# Altium footprint library PcbLib.PcbLib: 50 footprints (part 3 of 4)
Each footprint in its own frame and in the unit in brackets; x right, y up, seen from the top. Pads: shape width x height; smd on the part's side, far side on the other; paste and mask are expansions set on the pad; w line width, h text height; cw(c..) or ccw(c..) is an arc to the next point about the centre after c.
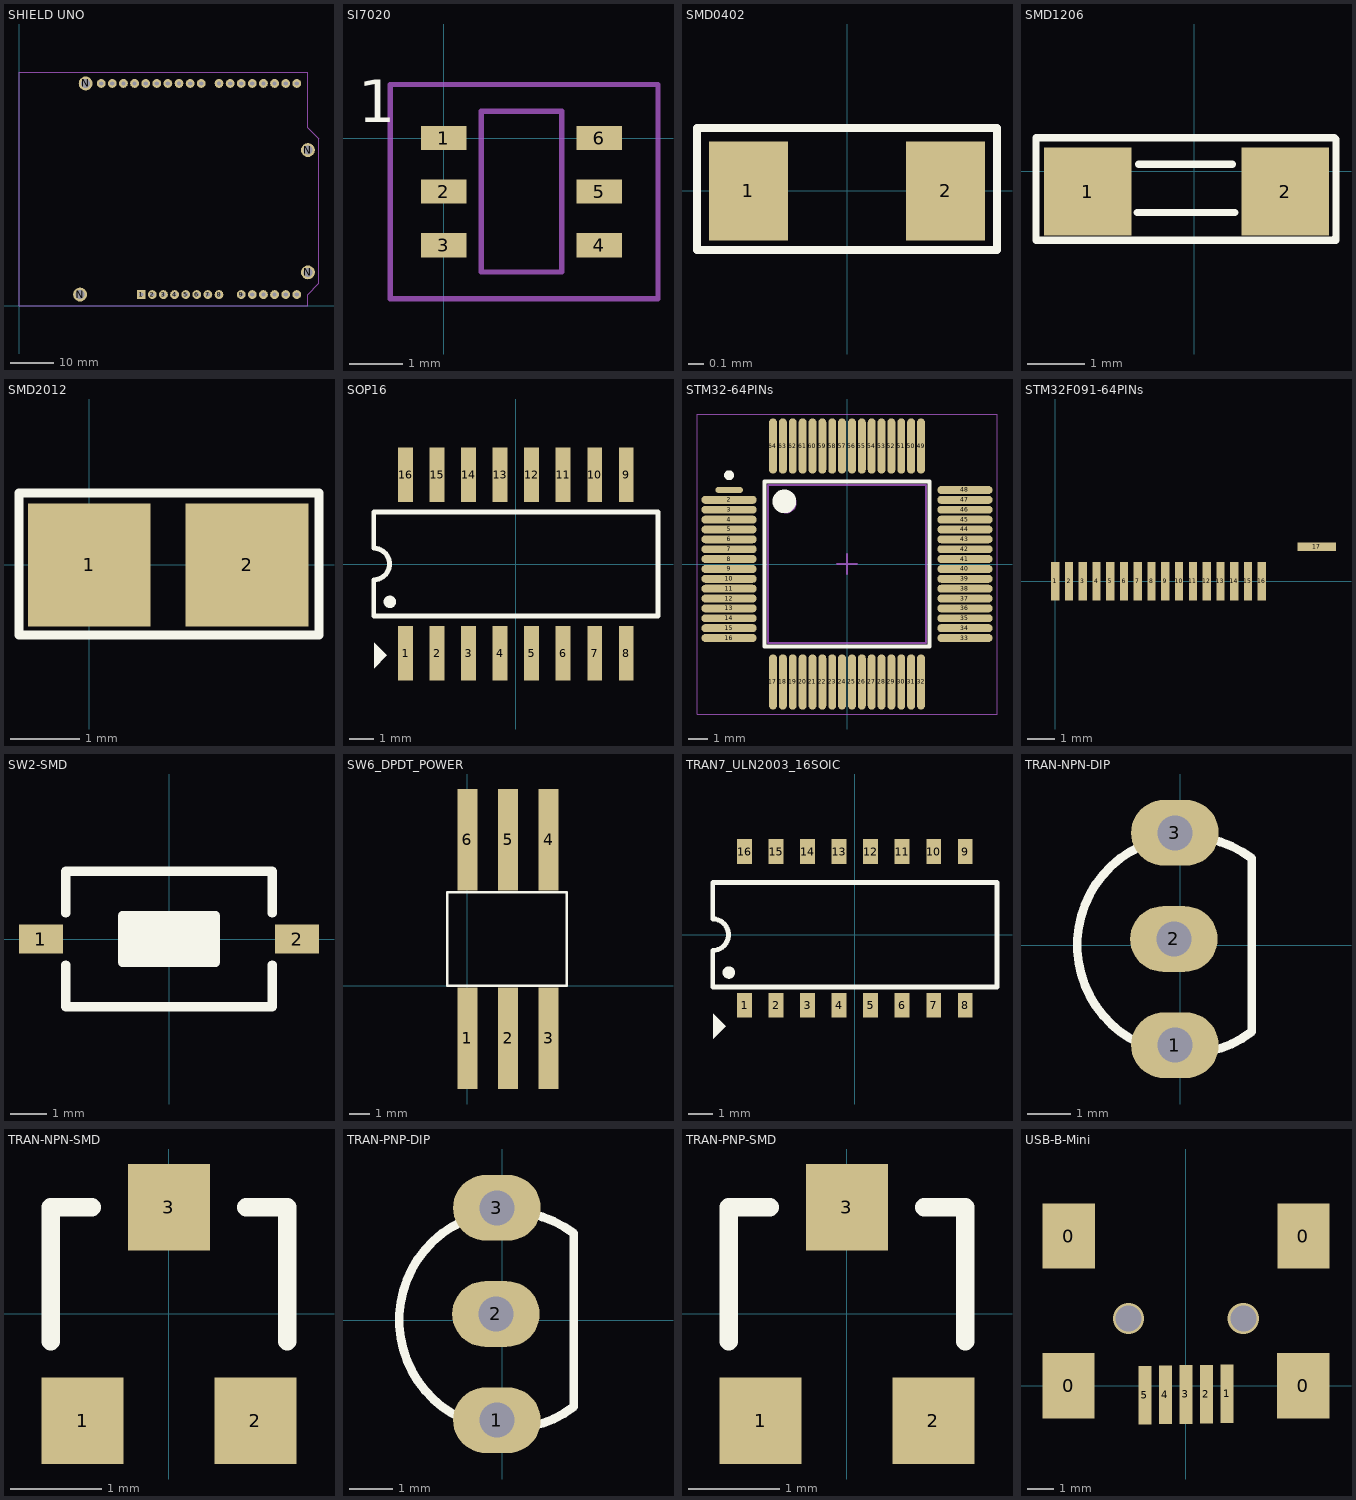
[diagram p2: the footprints below, top view; thin cyan lines are the x and y axes]

## SHIELD UNO [mm]
pads (36):
  rect 2x2 hole 1: 1(27.94,2.54)
  round 2 hole 1: 2(30.48,2.54) 3(33.02,2.54) 4(35.56,2.54) 5(38.1,2.54) 6(40.64,2.54) 7(43.18,2.54) 8(45.72,2.54) 9(50.8,2.54) 10(53.34,2.54) 11(55.88,2.54) 12(58.42,2.54) 13(60.96,2.54) 14(63.5,2.54) 15(63.5,50.8) 16(60.96,50.8) 17(58.42,50.8) 18(55.88,50.8) 19(53.34,50.8) 20(50.8,50.8) 21(48.26,50.8) 22(45.72,50.8) 23(41.656,50.8) 24(39.116,50.8) 25(36.576,50.8) 26(34.036,50.8) 27(31.496,50.8) 28(28.956,50.8) 29(26.416,50.8) 30(23.876,50.8) 31(21.336,50.8) 32(18.796,50.8)
  round 3.175 hole 2.032: N(13.97,2.54) N(15.24,50.8) N(66.04,7.62) N(66.04,35.56)
Mechanical 1:
  lines w0.254: 0,0 0,2.54 0,53.34 66.04,53.34 66.04,50.8 66.04,40.64 68.58,38.1 68.58,5.08 66.04,2.54 66.04,0 0,0

## SI7020 [mm] "DFN, 4-Leads, Body 3.00x3.00mm, Pitch 0.65mm, IPC Medium Density"
height 0.8
pads (6):
  rect 0.85x0.45 smd: 1(0,0) 2(0,-1) 3(0,-2) 4(2.9,-2) 5(2.9,-1) 6(2.9,0)
Top Overlay:
  text "1" at -1.6,0.3 h0.8
Mechanical 1:
  lines w0.1: 2.2,-2.3 2.2,-2.5 0.7,-2.5 0.7,0.5 2.2,0.5 ; -1,-3 -1,1 4,1 4,-3 -1,-3
Mechanical 13:
  lines w0.1: 2.2,-2.3 2.2,0.5

## SMD0402 [mil]
pads (2):
  rect 20x25 smd: 1(-25,0) 2(25,0)
Top Overlay:
  lines w2: -38,-15 -38,16 38,16 38,-15 -38,-15
3D body "User Library-Chip Resistor_0402 (1005).STEP": height 14.37, standoff 0, extent -19.68,-9.76 19.68,10

## SMD1206 [mil]
pads (2):
  rect 60x60 smd: 1(-72.68,-13.74) 2(62.32,-13.74)
Top Overlay:
  lines w5: -39,-28 28,-28 ; -38,5 26,5 ; 96,-46 97,-47 ; 96,23 -108,23 -108,-47 97,-47 ; 97,22 97,-47
3D body "SW3DPS-RESISTOR 1206-DEFAULT.STEP": height 20.87, standoff -1.18, extent -68.99,-45.67 57,19.68

## SMD2012 [mil]
pads (2):
  rect 70x70 smd: 1(0,0) 2(90,0)
Top Overlay:
  lines w5: -40,-40 -40,41 131,41 131,-40 -40,-40
3D body "User Library-CAPC2012X___.STEP": height 25, standoff -25, extent 7.64,-11.44 86.37,11

## SOP16 [mm] "Small Outline; 16 Leads; Body Width 5.6 mm; Pitch 1.27 mm"
height 2
pads (16):
  rect 0.6x2.2 smd: 1(-4.445,-3.6) 2(-3.175,-3.6) 3(-1.905,-3.6) 4(-0.635,-3.6) 5(0.635,-3.6) 6(1.905,-3.6) 7(3.175,-3.6) 8(4.445,-3.6) 9(4.445,3.6) 10(3.175,3.6) 11(1.905,3.6) 12(0.635,3.6) 13(-0.635,3.6) 14(-1.905,3.6) 15(-3.175,3.6) 16(-4.445,3.6)
Top Overlay:
  circle w0.25: c-5.078,-1.524 r0.125
  region: -5.715,-4.191 -5.207,-3.683 -5.715,-3.175
  lines w0.2: -5.725,-2.1 -5.725,-0.635 ccw(c-5.725,0) -5.725,0.635 -5.725,2.1 5.725,2.1 5.725,-2.1 -5.725,-2.1

## STM32-64PINs [mm] "SQFP, 64-Leads, Body 8.00x8.00mm, Pitch 0.50mm, IPC Medium Density"
height 2.45
pads (64):
  oval 1.4x0.3 smd: 1(-5.975,3.75)
  oval 2.8x0.4 smd: 2(-5.975,3.25) 3(-5.975,2.75) 4(-5.975,2.25) 5(-5.975,1.75) 6(-5.975,1.25) 7(-5.975,0.75) 8(-5.975,0.25) 9(-5.975,-0.25) 10(-5.975,-0.75) 11(-5.975,-1.25) 12(-5.975,-1.75) 13(-5.975,-2.25) 14(-5.975,-2.75) 15(-5.975,-3.25) 16(-5.975,-3.75) 33(5.975,-3.75) 34(5.975,-3.25) 35(5.975,-2.75) 36(5.975,-2.25) 37(5.975,-1.75) 38(5.975,-1.25) 39(5.975,-0.75) 40(5.975,-0.25) 41(5.975,0.25) 42(5.975,0.75) 43(5.975,1.25) 44(5.975,1.75) 45(5.975,2.25) 46(5.975,2.75) 47(5.975,3.25) 48(5.975,3.75)
  oval 0.4x2.8 smd: 17(-3.75,-5.975) 18(-3.25,-5.975) 19(-2.75,-5.975) 20(-2.25,-5.975) 21(-1.75,-5.975) 22(-1.25,-5.975) 23(-0.75,-5.975) 24(-0.25,-5.975) 25(0.25,-5.975) 26(0.75,-5.975) 27(1.25,-5.975) 28(1.75,-5.975) 29(2.25,-5.975) 30(2.75,-5.975) 31(3.25,-5.975) 32(3.75,-5.975) 49(3.75,5.975) 50(3.25,5.975) 51(2.75,5.975) 52(2.25,5.975) 53(1.75,5.975) 54(1.25,5.975) 55(0.75,5.975) 56(0.25,5.975) 57(-0.25,5.975) 58(-0.75,5.975) 59(-1.25,5.975) 60(-1.75,5.975) 61(-2.25,5.975) 62(-2.75,5.975) 63(-3.25,5.975) 64(-3.75,5.975)
Top Overlay:
  circle w0.6: c-3.175,3.175 r0.3
  circle w0.25: c-5.975,4.5 r0.125
  lines w0.2: -4.175,-4.175 4.175,-4.175 4.175,4.175 -4.175,4.175 -4.175,-4.175
Mechanical 13:
  circle w0.1: c-3.1,3.1 r0.5
  lines w0.1: -4,-4 4,-4 4,4 -4,4 -4,-4
Mechanical 15:
  lines w0.05: -7.6,-7.6 7.6,-7.6 7.6,7.6 -7.6,7.6 -7.6,-7.6
  lines w0.1: -0.5,0 0.5,0 ; 0,-0.5 0,0.5
3D body: height 2.45, standoff 0.25, extent -4,-4 4,4

## STM32F091-64PINs [mm]
pads (17):
  rect 0.3x1.4 smd: 1(0,0) 2(0.5,0) 3(1,0) 4(1.5,0) 5(2,0) 6(2.5,0) 7(3,0) 8(3.5,0) 9(4,0) 10(4.5,0) 11(5,0) 12(5.5,0) 13(6,0) 14(6.5,0) 15(7,0) 16(7.5,0)
  rect 1.4x0.3 smd: 17(9.5,1.25)

## SW2-SMD [mm] "Switch SMD type"
pads (2):
  rect 1.2x0.8 smd: 1(-3.5,0) 2(3.5,0)
Top Overlay:
  rectangle: -1.27,-0.635 1.27,0.635
  lines w0.254: -2.819,-0.711 -2.819,-1.854 2.819,-1.854 2.819,-0.711 ; -2.819,0.711 -2.819,1.854 2.819,1.854 2.819,0.711 ; -1.27,-0.635 -1.27,0.635 1.27,0.635 1.27,-0.635 -1.27,-0.635
3D body "User Library-Button-SMD.step": height 2.5, standoff 0, extent -3.05,-1.85 3.05,1.85

## SW6_DPDT_POWER [mm] "PUSH POWER SOURCE"
pads (6):
  rect 1x5 smd: 1(0,-2.6) 2(2,-2.6) 3(4,-2.6) 4(4,7.2) 5(2,7.2) 6(0,7.2)
Top Overlay:
  lines w0.13: 4.9,4.6 4.9,0 -1,0 -1,4.6 4.9,4.6 ; 4.9,4.6 4.9,4.6
3D body "User Library-PVB6_EE.step": height 12.5, standoff -1, extent -3.05,-3.85 6.85,8.65

## TRAN7_ULN2003_16SOIC [mm] "Small Outline; 16 Leads; Body Width 5.6 mm; Pitch 1.27 mm"
height 2
pads (16):
  rect 0.6x1 smd: 1(-4.445,-2.838) 2(-3.175,-2.838) 3(-1.905,-2.838) 4(-0.635,-2.838) 5(0.635,-2.838) 6(1.905,-2.838) 7(3.175,-2.838) 8(4.445,-2.838) 9(4.445,3.346) 10(3.175,3.346) 11(1.905,3.346) 12(0.635,3.346) 13(-0.635,3.346) 14(-1.905,3.346) 15(-3.175,3.346) 16(-4.445,3.346)
Top Overlay:
  circle w0.25: c-5.078,-1.524 r0.125
  region: -5.715,-4.191 -5.207,-3.683 -5.715,-3.175
  lines w0.2: -5.725,-2.1 -5.725,-0.635 ccw(c-5.725,0) -5.725,0.635 -5.725,2.1 5.725,2.1 5.725,-2.1 -5.725,-2.1
3D body "User Library-SOIC-16-1.step": height 1.4, standoff 0, extent -4.95,-2.746 4.95,3.254

## TRAN-NPN-DIP [mm] "TO, Flat Index; 3 In-Line, Axial Leads; Body Dia. 4.5mm; Leads 0.51 x 0.48 mm (max)"
height 6.86
pads (3):
  oval 2x1.5 hole 0.8: 1(-0.127,-2.286) 2(-0.151,0.139) 3(-0.127,2.564)
Top Overlay:
  lines w0.2: 1.627,-1.98 cw(c0.127,0) 1.627,1.98 1.627,-1.98
3D body "BJT.step": height 11, standoff -1, extent -2.476,-2.794 1.524,3.006

## TRAN-NPN-SMD [mm] "SOT-23; 3 Leads; Body 3.0 x 2.5 mm, inc. leads (LxW max)"
height 1.2
pads (3):
  rect 0.9x0.95 smd: 1(-0.95,-1.175) 2(0.95,-1.175) 3(0,1.175)
Top Overlay:
  lines w0.2: -1.3,-0.3 -1.3,1.175 -0.85,1.175 ; 0.85,1.175 1.3,1.175 1.3,-0.3
3D body "CircuitWorks-SOT-23.step": height 1.06, standoff -0.04, extent -1.5,-1.439 1.5,1.061

## TRAN-PNP-DIP [mm] "TO, Flat Index; 3 In-Line, Axial Leads; Body Dia. 4.5mm; Leads 0.51 x 0.48 mm (max)"
height 6.86
pads (3):
  oval 2x1.5 hole 0.8: 1(-0.127,-2.286) 2(-0.151,0.139) 3(-0.127,2.564)
Top Overlay:
  lines w0.2: 1.627,-1.98 cw(c0.127,0) 1.627,1.98 1.627,-1.98
3D body "BJT.step": height 11, standoff -1, extent -2.476,-2.794 1.524,3.006

## TRAN-PNP-SMD [mm] "SOT-23; 3 Leads; Body 3.0 x 2.5 mm, inc. leads (LxW max)"
height 1.2
pads (3):
  rect 0.9x0.95 smd: 1(-0.95,-1.175) 2(0.95,-1.175) 3(0,1.175)
Top Overlay:
  lines w0.2: -1.3,-0.3 -1.3,1.175 -0.85,1.175 ; 0.85,1.175 1.3,1.175 1.3,-0.3
3D body "CircuitWorks-SOT-23.step": height 1.06, standoff -0.04, extent -1.5,-1.377 1.5,1.123

## USB-B-Mini [mm]
pads (9):
  rect 2x2.5 smd: 0(-4.5,0) 0(-4.496,5.74) 0(4.5,0) 0(4.504,5.74)
  rect 0.5x2.25 smd: 1(1.575,-0.305) 2(0.787,-0.318) 3(0,-0.33) 4(-0.787,-0.343) 5(-1.575,-0.356)
via 2.2,2.58 diameter 1.2 hole 1
via -2.2,2.58 diameter 1.2 hole 1
3D body "User Library-USB_mini_B.step": height 3.95, standoff -1, extent -5.35,-0.673 5.35,8.527